# Altium footprint library Diodes.PcbLib: 5 footprints
Each footprint in its own frame and in the unit in brackets; x right, y up, seen from the top. Pads: shape width x height; smd on the part's side, far side on the other; paste and mask are expansions set on the pad; w line width, h text height; cw(c..) or ccw(c..) is an arc to the next point about the centre after c.
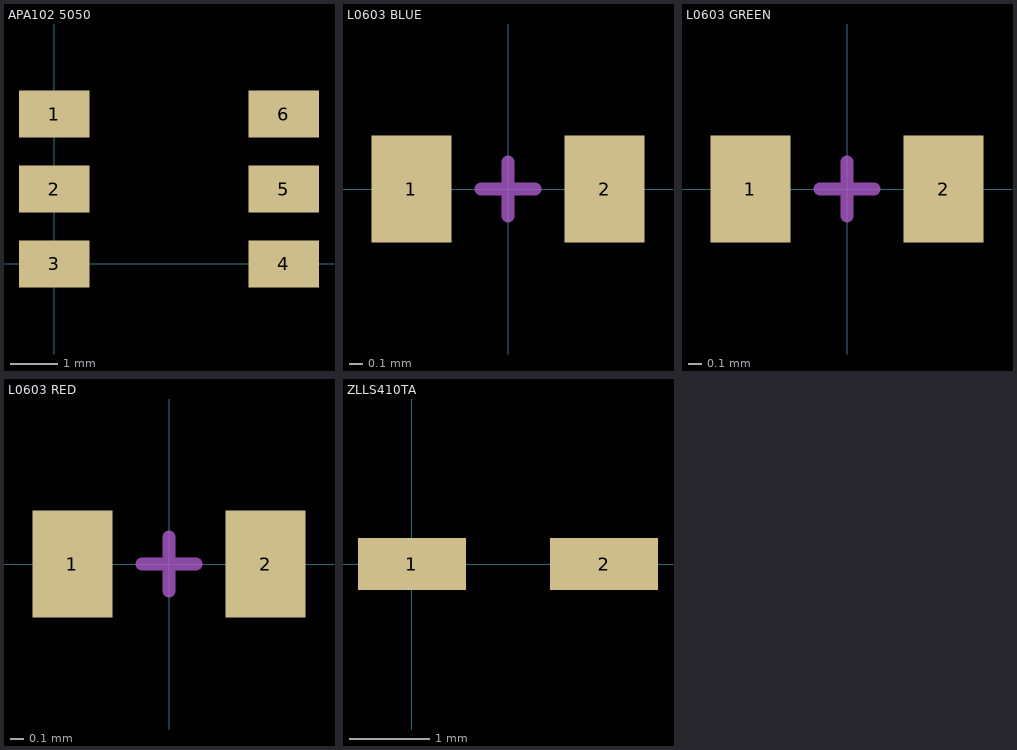
[diagram p0: the footprints below, top view; thin cyan lines are the x and y axes]

## APA102 5050 [mm]
pads (6):
  rect 1.5x1 smd: 1(0,3.2) 2(0,1.6) 3(0,0) 4(4.9,0) 5(4.9,1.6) 6(4.9,3.2)
3D body "User Library-APA102C.step": height 1.4, standoff -0.15, extent -0.35,-0.9 5.15,4.1

## L0603 BLUE [mm]
pads (2):
  rect 0.6x0.8 smd: 1(-0.725,0) 2(0.725,0)
Top Courtyard:
  lines w0.1: -0.2,0 0.2,0 ; 0,-0.2 0,0.2
3D body "User Library-LED_0603_B.STEP": height 0.6, standoff 0, extent -0.8,-0.4 0.8,0.4

## L0603 GREEN [mm]
pads (2):
  rect 0.6x0.8 smd: 1(-0.725,0) 2(0.725,0)
Top Courtyard:
  lines w0.1: -0.2,0 0.2,0 ; 0,-0.2 0,0.2
3D body "User Library-LED_0603_G.STEP": height 0.6, standoff 0, extent -0.8,-0.4 0.8,0.4

## L0603 RED [mm]
pads (2):
  rect 0.6x0.8 smd: 1(-0.725,0) 2(0.725,0)
Top Courtyard:
  lines w0.1: -0.2,0 0.2,0 ; 0,-0.2 0,0.2
3D body "User Library-LED_0603_R.STEP": height 0.6, standoff 0, extent -0.8,-0.4 0.8,0.4

## ZLLS410TA [mm] "SOD-323, 2 pins"
pads (2):
  rect 1.35x0.65 smd: 1(0,0) 2(2.4,0)
3D body "User Library-Mini2-F4-B.STEP": height 0.8, standoff -0.03, extent -0.56,-0.81 2.94,0.79